# EAGLE library part FX8C-80S (library JLB6_Connec)
Hirose FX8C-80S (Male, cote cpu)
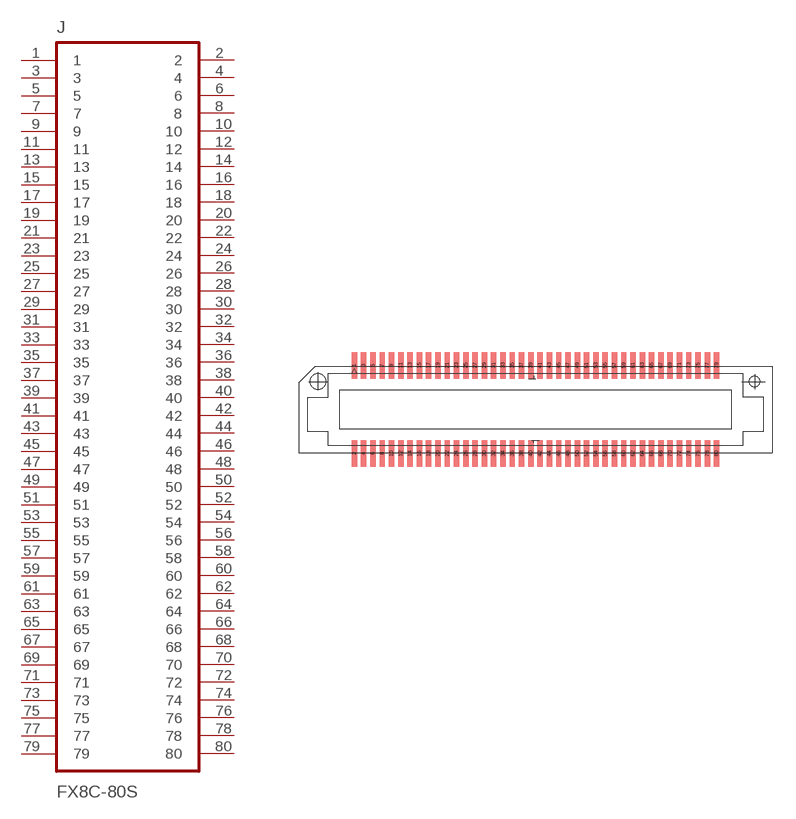
[diagram p14: symbol with the pads of FX8C-80S; footprint FX8C-80S]

Designator prefix J

## FX8C-80S  [FX8C-80S]
1  1
2  2
3  3
4  4
5  5
6  6
7  7
8  8
9  9
10  10
11  11
12  12
13  13
14  14
15  15
16  16
17  17
18  18
19  19
20  20
21  21
22  22
23  23
24  24
25  25
26  26
27  27
28  28
29  29
30  30
31  31
32  32
33  33
34  34
35  35
36  36
37  37
38  38
39  39
40  40
41  41
42  42
43  43
44  44
45  45
46  46
47  47
48  48
49  49
50  50
51  51
52  52
53  53
54  54
55  55
56  56
57  57
58  58
59  59
60  60
61  61
62  62
63  63
64  64
65  65
66  66
67  67
68  68
69  69
70  70
71  71
72  72
73  73
74  74
75  75
76  76
77  77
78  78
79  79
80  80

## Footprint FX8C-80S (pad centres in mm)
smd 0.35 x 1.7: 1 -11.7,2.848; 2 -11.7,-2.848; 3 -11.1,2.848; 4 -11.1,-2.848; 5 -10.5,2.848; 6 -10.5,-2.848; 7 -9.9,2.848; 8 -9.9,-2.848; 9 -9.3,2.848; 10 -9.3,-2.848; 11 -8.7,2.848; 12 -8.7,-2.848; 13 -8.1,2.848; 14 -8.1,-2.848; 15 -7.5,2.848; 16 -7.5,-2.848; 17 -6.9,2.848; 18 -6.9,-2.848; 19 -6.3,2.848; 20 -6.3,-2.848; 21 -5.7,2.848; 22 -5.7,-2.848; 23 -5.1,2.848; 24 -5.1,-2.848; 25 -4.5,2.848; 26 -4.5,-2.848; 27 -3.9,2.848; 28 -3.9,-2.848; 29 -3.3,2.848; 30 -3.3,-2.848; 31 -2.7,2.848; 32 -2.7,-2.848; 33 -2.1,2.848; 34 -2.1,-2.848; 35 -1.5,2.848; 36 -1.5,-2.848; 37 -0.9,2.848; 38 -0.9,-2.848; 39 -0.3,2.848; 40 -0.3,-2.848; 41 0.3,2.848; 42 0.3,-2.848; 43 0.9,2.848; 44 0.9,-2.848; 45 1.5,2.848; 46 1.5,-2.848; 47 2.1,2.848; 48 2.1,-2.848; 49 2.7,2.848; 50 2.7,-2.848; 51 3.3,2.848; 52 3.3,-2.848; 53 3.9,2.848; 54 3.9,-2.848; 55 4.5,2.848; 56 4.5,-2.848; 57 5.1,2.848; 58 5.1,-2.848; 59 5.7,2.848; 60 5.7,-2.848; 61 6.3,2.848; 62 6.3,-2.848; 63 6.9,2.848; 64 6.9,-2.848; 65 7.5,2.848; 66 7.5,-2.848; 67 8.1,2.848; 68 8.1,-2.848; 69 8.7,2.848; 70 8.7,-2.848; 71 9.3,2.848; 72 9.3,-2.848; 73 9.9,2.848; 74 9.9,-2.848; 75 10.5,2.848; 76 10.5,-2.848; 77 11.1,2.848; 78 11.1,-2.848; 79 11.7,2.848; 80 11.7,-2.848
hole 0.991 at -14.049,1.803
hole 0.686 at 14.149,1.803